# EAGLE library part AD8192 (library hoky)
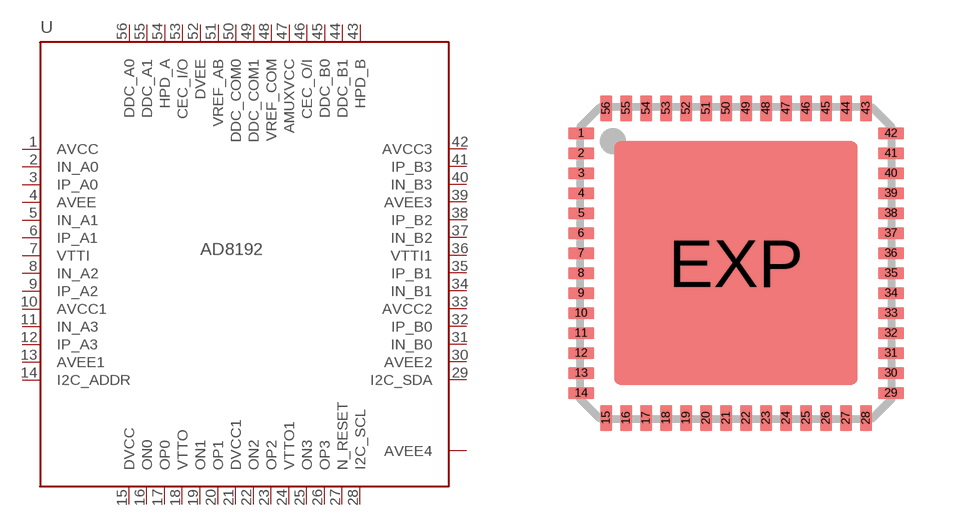
[diagram p0: symbol with the pads of LFCSP56; footprint LFCSP56]

Designator prefix U

## AD8192  [LFCSP56]
1  AVCC  pwr
2  IN_A0  in
3  IP_A0  in
4  AVEE  pwr
5  IN_A1  in
6  IP_A1  in
7  VTTI  pwr
8  IN_A2  in
9  IP_A2  in
10  AVCC1  pwr
11  IN_A3  in
12  IP_A3  in
13  AVEE1  pwr
14  I2C_ADDR  in
15  DVCC  pwr
16  ON0  in
17  OP0  in
18  VTTO  pwr
19  ON1  in
20  OP1  in
21  DVCC1  pwr
22  ON2  in
23  OP2  in
24  VTTO1  pwr
25  ON3  in
26  OP3  in
27  N_RESET  in
28  I2C_SCL  oc
29  I2C_SDA  oc
30  AVEE2  pwr
31  IN_B0  in
32  IP_B0  in
33  AVCC2  pwr
34  IN_B1  in
35  IP_B1  in
36  VTTI1  pwr
37  IN_B2  in
38  IP_B2  in
39  AVEE3  pwr
40  IN_B3  in
41  IP_B3  in
42  AVCC3  pwr
43  HPD_B  out
44  DDC_B1
45  DDC_B0
46  CEC_O/I
47  AMUXVCC  pwr
48  VREF_COM  in
49  DDC_COM1
50  DDC_COM0
51  VREF_AB  in
52  DVEE  pwr
53  CEC_I/O
54  HPD_A  out
55  DDC_A1
56  DDC_A0
EXP  AVEE4  pwr

## Footprint LFCSP56 (pad centres in mm)
smd 0.65 x 0.3: 1 -3.875,3.25; 2 -3.875,2.75; 3 -3.875,2.25; 4 -3.875,1.75; 5 -3.875,1.25; 6 -3.875,0.75; 7 -3.875,0.25; 8 -3.875,-0.25; 9 -3.875,-0.75; 10 -3.875,-1.25; 11 -3.875,-1.75; 12 -3.875,-2.25; 13 -3.875,-2.75; 14 -3.875,-3.25; 29 3.875,-3.25; 30 3.875,-2.75; 31 3.875,-2.25; 32 3.875,-1.75; 33 3.875,-1.25; 34 3.875,-0.75; 35 3.875,-0.25; 36 3.875,0.25; 37 3.875,0.75; 38 3.875,1.25; 39 3.875,1.75; 40 3.875,2.25; 41 3.875,2.75; 42 3.875,3.25
smd 0.3 x 0.65: 15 -3.25,-3.875; 16 -2.75,-3.875; 17 -2.25,-3.875; 18 -1.75,-3.875; 19 -1.25,-3.875; 20 -0.75,-3.875; 21 -0.25,-3.875; 22 0.25,-3.875; 23 0.75,-3.875; 24 1.25,-3.875; 25 1.75,-3.875; 26 2.25,-3.875; 27 2.75,-3.875; 28 3.25,-3.875; 43 3.25,3.875; 44 2.75,3.875; 45 2.25,3.875; 46 1.75,3.875; 47 1.25,3.875; 48 0.75,3.875; 49 0.25,3.875; 50 -0.25,3.875; 51 -0.75,3.875; 52 -1.25,3.875; 53 -1.75,3.875; 54 -2.25,3.875; 55 -2.75,3.875; 56 -3.25,3.875
smd 6.1 x 6.1: EXP 0,0